# Altium schematic symbol library SCH - BUFFERS - TI TUSB544IRNQR.SCHLIB: 1 symbol
Pins are listed as number, name and electrical type; pins without a type are passive.

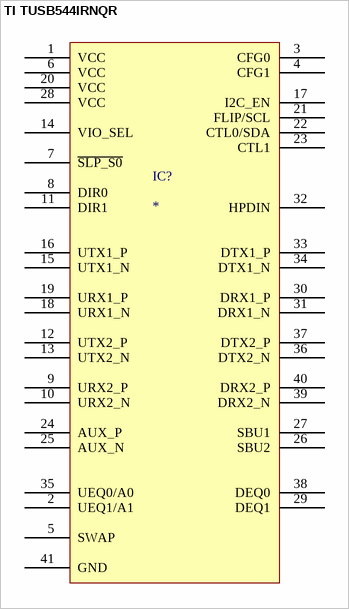
[diagram p0: symbol TI TUSB544IRNQR]

## TI TUSB544IRNQR
designator IC?
pins: 1 VCC, 2 UEQ1/A1, 3 CFG0, 4 CFG1, 5 SWAP, 6 VCC, 7 ~{SLP_S0}, 8 DIR0, 9 URX2_P, 10 URX2_N, 11 DIR1, 12 UTX2_P, 13 UTX2_N, 14 VIO_SEL, 15 UTX1_N, 16 UTX1_P, 17 I2C_EN, 18 URX1_N, 19 URX1_P, 20 VCC, 21 FLIP/SCL, 22 CTL0/SDA, 23 CTL1, 24 AUX_P, 25 AUX_N, 26 SBU2, 27 SBU1, 28 VCC, 29 DEQ1, 30 DRX1_P, 31 DRX1_N, 32 HPDIN, 33 DTX1_P, 34 DTX1_N, 35 UEQ0/A0, 36 DTX2_N, 37 DTX2_P, 38 DEQ0, 39 DRX2_N, 40 DRX2_P, 41 GND